# Altium integrated library Diode.IntLib: 2 symbols
Pins are listed as number, name and electrical type; pins without a type are passive.

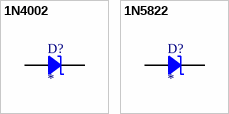
[diagram p0: symbols 1N4002 to 1N5822]

## 1N4002
designator D?
DİODE
footprint 1N4002
pins: A, K

## 1N5822
designator D?
Schottky Diode
footprint 1N5822
pins: A, K